# Altium footprint library SSO6.PcbLib: 1 footprints
Each footprint in its own frame and in the unit in brackets; x right, y up, seen from the top. Pads: shape width x height; smd on the part's side, far side on the other; paste and mask are expansions set on the pad; w line width, h text height; cw(c..) or ccw(c..) is an arc to the next point about the centre after c.
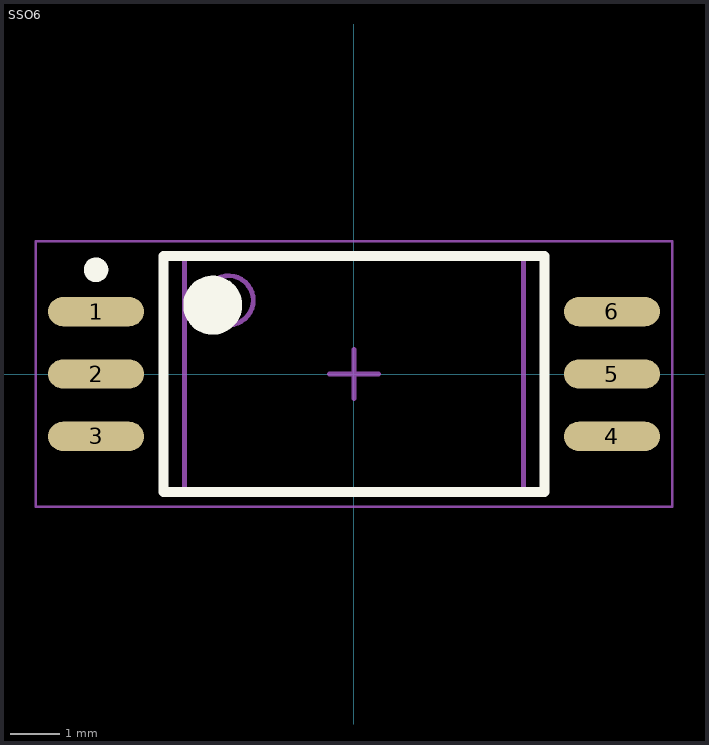
[diagram p0: the footprint, top view; thin cyan lines are the x and y axes]

## SSO6 [mm] "SSO6,Strethed SO-6 package, IPC Medium Density"
height 1.7
pads (6):
  oval 1.95x0.6 smd: 1(-5.25,1.27) 2(-5.25,0) 3(-5.25,-1.27) 4(5.25,-1.27) 5(5.25,0) 6(5.25,1.27)
Top Overlay:
  circle w0.25: c-5.25,2.12 r0.125
  circle w0.6: c-2.875,1.4 r0.3
  lines w0.2: -3.875,-2.4 -3.875,2.4 3.875,2.4 3.875,-2.4 -3.875,-2.4
Mechanical 13:
  circle w0.1: c-2.55,1.5 r0.5
  lines w0.1: -3.45,-2.4 -3.45,2.4 3.45,2.4 3.45,-2.4 -3.45,-2.4
Mechanical 15:
  lines w0.05: -6.475,-2.7 -6.475,2.7 6.475,2.7 6.475,-2.7 -6.475,-2.7
  lines w0.1: -0.5,0 0.5,0 ; 0,-0.5 0,0.5
Mechanical 17:
  text "'.Designator'" at -3.683,-0.254 h0.64
3D body "User Library-SO-6W.STEP": height 3.3, standoff 0.02, extent -5.75,-2.294 5.75,2.286